# Altium footprint library CAPMP7342X30N.PcbLib: 1 footprints
Each footprint in its own frame and in the unit in brackets; x right, y up, seen from the top. Pads: shape width x height; smd on the part's side, far side on the other; paste and mask are expansions set on the pad; w line width, h text height; cw(c..) or ccw(c..) is an arc to the next point about the centre after c.
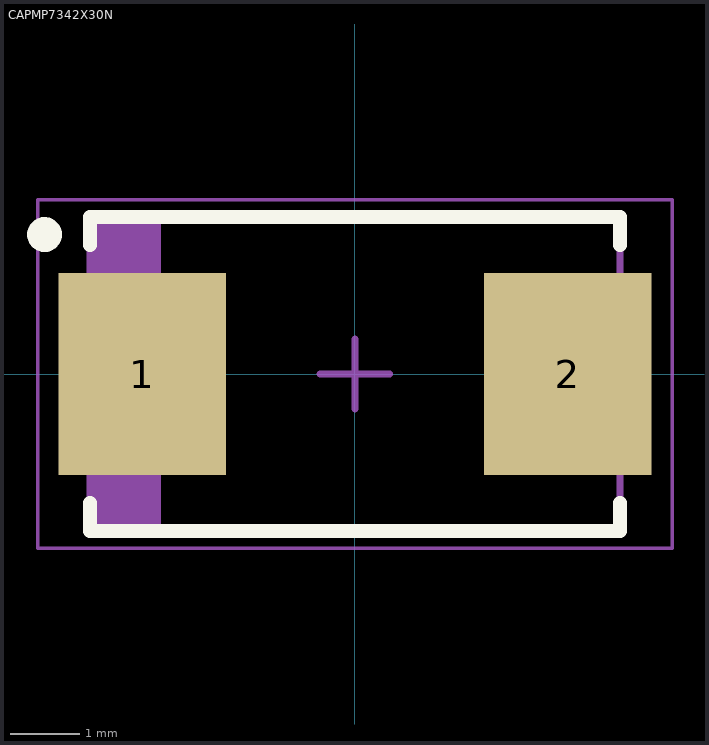
[diagram p0: the footprint, top view; thin cyan lines are the x and y axes]

## CAPMP7342X30N [mm] "Molded Capacitor, 2-Leads, Body 7,30x4,25mm, IPC Medium Density"
height 3
pads (2):
  rect 2.4x2.9 smd: 1(-3.05,0) 2(3.05,0)
Top Overlay:
  circle w0.25: c-4.45,2 r0.125
  lines w0.2: -3.8,-1.85 -3.8,-2.25 3.8,-2.25 3.8,-1.85 ; -3.8,1.85 -3.8,2.25 3.8,2.25 3.8,1.85
Mechanical 13:
  rectangle: -3.8,-2.2 -2.778,2.2
  lines w0.1: -3.8,-2.2 3.8,-2.2 3.8,2.2 -3.8,2.2 -3.8,-2.2
Mechanical 15:
  lines w0.05: -4.55,-2.5 4.55,-2.5 4.55,2.5 -4.55,2.5 -4.55,-2.5
  lines w0.1: -0.5,0 0.5,0 ; 0,-0.5 0,0.5
3D body: height 3, standoff 0, extent -3.8,-2.2 3.8,2.2